# EAGLE library part ADC,ADS5463(12-BIT,500MSPS,LVDS) (library QuantumOptics)
ADS5463, ADC 12-bit 500/550MSPS, LVDS, from T.I.
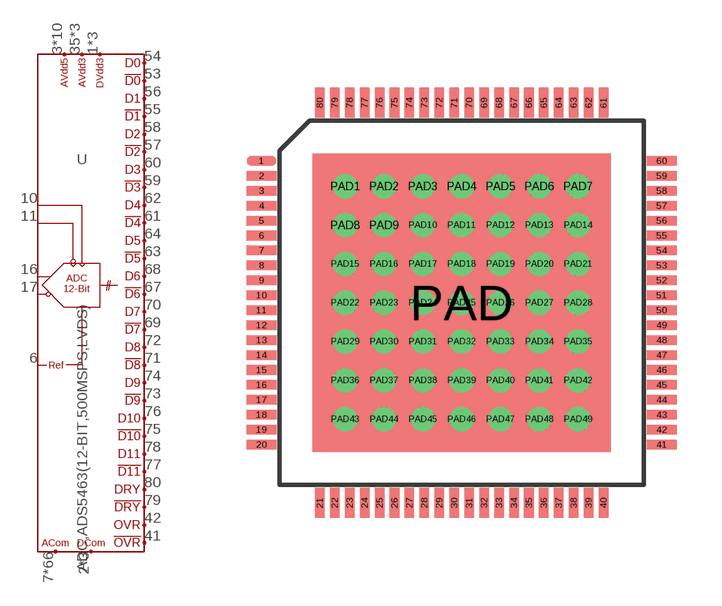
[diagram p216: symbol with the pads of QFP80_PAD(TI_S-PQFP-G80); footprint QFP80_PAD(TI_S-PQFP-G80)]

Designator prefix U

## ADC,ADS5463(12-BIT,500MSPS,LVDS)  [QFP80_PAD(TI_S-PQFP-G80)]
1  DVDD3
2  DGND
3  AVDD5
6  REF  in
7  AGND
8  AVDD5
9  AGND
10  CLK  in
11  !CLK  in
12  AGND
13  AVDD5
14  AVDD5
15  AGND
16  VIN  in
17  !VIN  in
18  AGND
19  AVDD5
20  AGND
21  AVDD5
22  AGND
23  AVDD5
24  AGND
25  AVDD5
26  AGND
27  AVDD5
28  AGND
30  AGND
31  AVDD5
32  AGND
34  AGND
35  AVDD3
36  AGND
37  AVDD3
38  AGND
39  AVDD3
40  AGND
41  !OVR  out
42  OVR  out
51  DVDD3
52  DGND
53  !D0  out
54  D0  out
55  !D1  out
56  D1  out
57  !D2  out
58  D2  out
59  !D3  out
60  D3  out
61  !D4  out
62  D4  out
63  !D5  out
64  D5  out
65  DGND
66  DVDD3
67  !D6  out
68  D6  out
69  !D7  out
70  D7  out
71  !D8  out
72  D8  out
73  !D9  out
74  D9  out
75  !D10  out
76  D10  out
77  !D11  out
78  D11  out
79  !DRY  out
80  DRY  out
PAD  AGND
PAD1  AGND
PAD2  AGND
PAD3  AGND
PAD4  AGND
PAD5  AGND
PAD6  AGND
PAD7  AGND
PAD8  AGND
PAD9  AGND
PAD10  AGND
PAD11  AGND
PAD12  AGND
PAD13  AGND
PAD14  AGND
PAD15  AGND
PAD16  AGND
PAD17  AGND
PAD18  AGND
PAD19  AGND
PAD20  AGND
PAD21  AGND
PAD22  AGND
PAD23  AGND
PAD24  AGND
PAD25  AGND
PAD26  AGND
PAD27  AGND
PAD28  AGND
PAD29  AGND
PAD30  AGND
PAD31  AGND
PAD32  AGND
PAD33  AGND
PAD34  AGND
PAD35  AGND
PAD36  AGND
PAD37  AGND
PAD38  AGND
PAD39  AGND
PAD40  AGND
PAD41  AGND
PAD42  AGND
PAD43  AGND
PAD44  AGND
PAD45  AGND
PAD46  AGND
PAD47  AGND
PAD48  AGND
PAD49  AGND

## Footprint QFP80_PAD(TI_S-PQFP-G80) (pad centres in mm)
QFN-80 with Epad, AKA TI's S-PQFP-G80, as used on ADS5463.
smd 1 x 0.32: 1 -6.7,4.75; 2 -6.7,4.25; 3 -6.7,3.75; 4 -6.7,3.25; 5 -6.7,2.75; 6 -6.7,2.25; 7 -6.7,1.75; 8 -6.7,1.25; 9 -6.7,0.75; 10 -6.7,0.25; 11 -6.7,-0.25; 12 -6.7,-0.75; 13 -6.7,-1.25; 14 -6.7,-1.75; 15 -6.7,-2.25; 16 -6.7,-2.75; 17 -6.7,-3.25; 18 -6.7,-3.75; 19 -6.7,-4.25; 20 -6.7,-4.75; 41 6.7,-4.75; 42 6.7,-4.25; 43 6.7,-3.75; 44 6.7,-3.25; 45 6.7,-2.75; 46 6.7,-2.25; 47 6.7,-1.75; 48 6.7,-1.25; 49 6.7,-0.75; 50 6.7,-0.25; 51 6.7,0.25; 52 6.7,0.75; 53 6.7,1.25; 54 6.7,1.75; 55 6.7,2.25; 56 6.7,2.75; 57 6.7,3.25; 58 6.7,3.75; 59 6.7,4.25; 60 6.7,4.75
smd 0.32 x 1: 21 -4.75,-6.7; 22 -4.25,-6.7; 23 -3.75,-6.7; 24 -3.25,-6.7; 25 -2.75,-6.7; 26 -2.25,-6.7; 27 -1.75,-6.7; 28 -1.25,-6.7; 29 -0.75,-6.7; 30 -0.25,-6.7; 31 0.25,-6.7; 32 0.75,-6.7; 33 1.25,-6.7; 34 1.75,-6.7; 35 2.25,-6.7; 36 2.75,-6.7; 37 3.25,-6.7; 38 3.75,-6.7; 39 4.25,-6.7; 40 4.75,-6.7; 61 4.75,6.7; 62 4.25,6.7; 63 3.75,6.7; 64 3.25,6.7; 65 2.75,6.7; 66 2.25,6.7; 67 1.75,6.7; 68 1.25,6.7; 69 0.75,6.7; 70 0.25,6.7; 71 -0.25,6.7; 72 -0.75,6.7; 73 -1.25,6.7; 74 -1.75,6.7; 75 -2.25,6.7; 76 -2.75,6.7; 77 -3.25,6.7; 78 -3.75,6.7; 79 -4.25,6.7; 80 -4.75,6.7
smd 10 x 10: PAD 0,0
drill 0.3: PAD1 -3.9,3.9; PAD2 -2.6,3.9; PAD3 -1.3,3.9; PAD4 0,3.9; PAD5 1.3,3.9; PAD6 2.6,3.9; PAD7 3.9,3.9; PAD8 -3.9,2.6; PAD9 -2.6,2.6; PAD10 -1.3,2.6; PAD11 0,2.6; PAD12 1.3,2.6; PAD13 2.6,2.6; PAD14 3.9,2.6; PAD15 -3.9,1.3; PAD16 -2.6,1.3; PAD17 -1.3,1.3; PAD18 0,1.3; PAD19 1.3,1.3; PAD20 2.6,1.3; PAD21 3.9,1.3; PAD22 -3.9,0; PAD23 -2.6,0; PAD24 -1.3,0; PAD25 0,0; PAD26 1.3,0; PAD27 2.6,0; PAD28 3.9,0; PAD29 -3.9,-1.3; PAD30 -2.6,-1.3; PAD31 -1.3,-1.3; PAD32 0,-1.3; PAD33 1.3,-1.3; PAD34 2.6,-1.3; PAD35 3.9,-1.3; PAD36 -3.9,-2.6; PAD37 -2.6,-2.6; PAD38 -1.3,-2.6; PAD39 0,-2.6; PAD40 1.3,-2.6; PAD41 2.6,-2.6; PAD42 3.9,-2.6; PAD43 -3.9,-3.9; PAD44 -2.6,-3.9; PAD45 -1.3,-3.9; PAD46 0,-3.9; PAD47 1.3,-3.9; PAD48 2.6,-3.9; PAD49 3.9,-3.9